# EAGLE library part PICKIT-3 (library MM_lib)
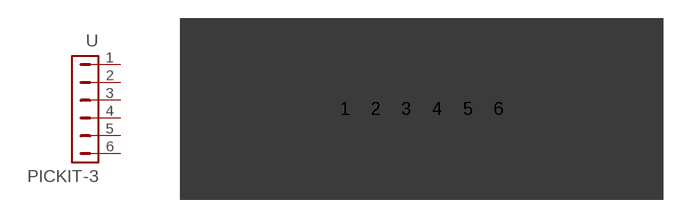
[diagram p0: symbol with the pads of 1X06; footprint 1X06]

Designator prefix -

## PICKIT-3  [1X06]
1  MCLR  pas
2  VDD  pas
3  VSS  pas
4  PGD  pas
5  PGC  pas
6  LVP  pas

## Footprint 1X06 (pad centres in mm)
PIN HEADER
drill 1.016 long: 1 -6.35,0; 2 -3.81,0; 3 -1.27,0; 4 1.27,0; 5 3.81,0; 6 6.35,0